# EAGLE library part SX70-SONAR-FLASHFLEX-HOLES (library _openSX70-NEW)
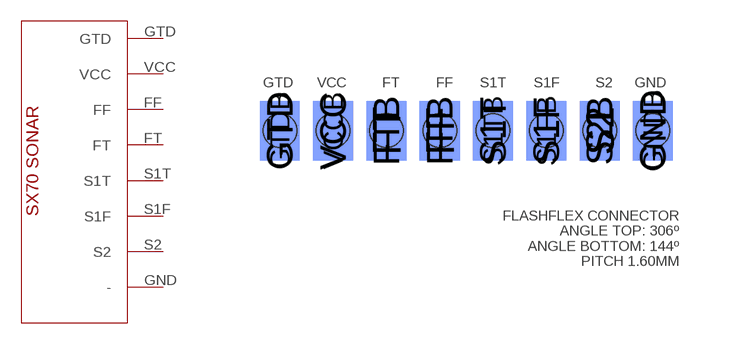
[diagram p12: symbol with the pads of SONAR-FLASHFLEX-HOLES; footprint SONAR-FLASHFLEX-HOLES]

Designator prefix -

## SX70-SONAR-FLASHFLEX-HOLES  [SONAR-FLASHFLEX-HOLES]
FF  FF
FT  FT
GND  -
GTD  GTD
S1F  S1F
S1T  S1T
S2  S2
VCC  VCC

## Footprint SONAR-FLASHFLEX-HOLES (pad centres in mm)
smd 1.2 x 1.78: FF -3.2,-0.8; FT -4.8,-0.8; GND 3.2,-0.8; GTD -8,-0.8; S1 1.6,-0.8; S1F 0,-0.8; S1T -1.6,-0.8; S2 1.6,-0.8; VCC -6.4,-0.8
smd 1.2 x 1.78 bottom: FFB -3.2,-0.8; FTB -4.8,-0.8; GNDB 3.2,-0.8; GTDB -8,-0.8; S1FB 0,-0.8; S1TB -1.6,-0.8; S2B 1.6,-0.8; VCCB -6.4,-0.8
hole 1 at -8,-0.8
hole 1 at -6.4,-0.8
hole 1 at -4.8,-0.8
hole 1 at -3.2,-0.8
hole 1 at 3.2,-0.8
hole 1 at -1.6,-0.8
hole 1 at 0,-0.8
hole 1 at 1.6,-0.8